# Altium schematic symbol library CON12_SBTH.SchLib: 1 symbol
Pins are listed as number, name and electrical type; pins without a type are passive.

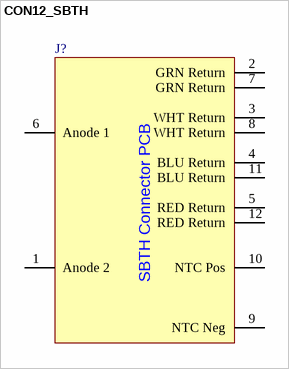
[diagram p0: symbol CON12_SBTH]

## CON12_SBTH
designator J?
pins: 1 Anode 2, 2 GRN Return, 3 WHT Return, 4 BLU Return, 5 RED Return, 6 Anode 1, 7 GRN Return, 8 WHT Return, 9 NTC Neg, 10 NTC Pos, 11 BLU Return, 12 RED Return
text: SBTH Connector PCB